# EAGLE library part 62000621121 (library Wuerth_Elektronik_eiCan_Pin_&_Socked_Headers_v1.3)
WR-PHD 2.00mm Dual Pin Header, 6 Pins
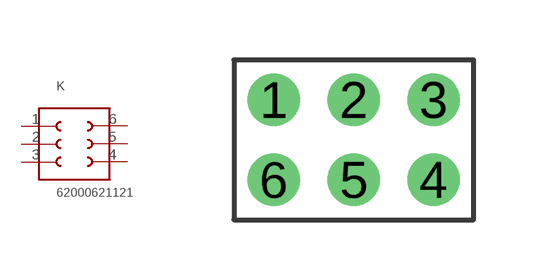
[diagram p270: symbol with the pads of 62000621121; footprint 62000621121]

Designator prefix K

## 62000621121  [62000621121]
1  1  pas
2  2  pas
3  3  pas
4  4  pas
5  5  pas
6  6  pas

## Footprint 62000621121 (pad centres in mm)
WR-PHD 2.00mm Dual Pin Header, 6 Pins
drill 0.8 round: 1 -2,1; 2 0,1; 3 2,1; 4 2,-1; 5 0,-1; 6 -2,-1